# Altium footprint library FT232RL-REEL.PcbLib: 1 footprints
Each footprint in its own frame and in the unit in brackets; x right, y up, seen from the top. Pads: shape width x height; smd on the part's side, far side on the other; paste and mask are expansions set on the pad; w line width, h text height; cw(c..) or ccw(c..) is an arc to the next point about the centre after c.
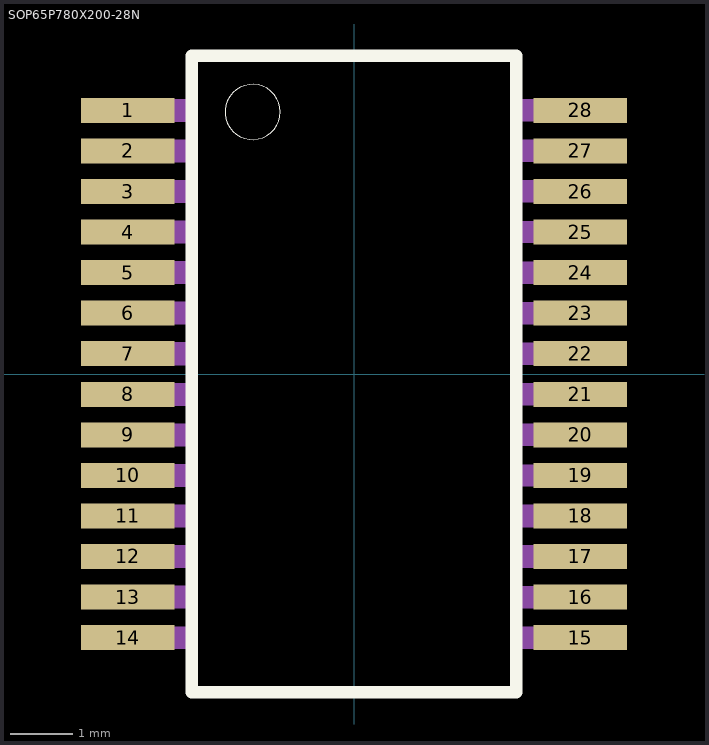
[diagram p0: the footprint, top view; thin cyan lines are the x and y axes]

## SOP65P780X200-28N [mm]
pads (28):
  rect 1.5x0.4 smd: 1(-3.625,4.225) 2(-3.625,3.575) 3(-3.625,2.925) 4(-3.625,2.275) 5(-3.625,1.625) 6(-3.625,0.975) 7(-3.625,0.325) 8(-3.625,-0.325) 9(-3.625,-0.975) 10(-3.625,-1.625) 11(-3.625,-2.275) 12(-3.625,-2.925) 13(-3.625,-3.575) 14(-3.625,-4.225) 15(3.625,-4.225) 16(3.625,-3.575) 17(3.625,-2.925) 18(3.625,-2.275) 19(3.625,-1.625) 20(3.625,-0.975) 21(3.625,-0.325) 22(3.625,0.325) 23(3.625,0.975) 24(3.625,1.625) 25(3.625,2.275) 26(3.625,2.925) 27(3.625,3.575) 28(3.625,4.225)
Top Overlay:
  circle w0: c-1.625,4.2 r0.442
  lines w0.203: -2.6,-5.1 2.6,-5.1 2.6,5.1 -2.6,5.1 -2.6,-5.1
Mechanical 1:
  region: 3.937,4.403 3.937,4.048 2.643,4.048 2.643,4.403
  region: 3.937,3.753 3.937,3.401 2.646,3.401 2.646,3.753
  region: 3.938,3.102 3.938,2.751 2.645,2.751 2.645,3.102
  region: 3.938,2.452 3.938,2.101 2.645,2.101 2.645,2.452
  region: 3.937,1.803 3.937,1.448 2.642,1.448 2.642,1.803
  region: 3.939,1.151 3.939,0.8 2.644,0.8 2.644,1.151
  region: 3.937,0.503 3.937,0.147 2.642,0.147 2.642,0.503
  region: 3.937,-0.148 3.937,-0.503 2.642,-0.503 2.642,-0.148
  region: 3.94,-0.801 3.94,-1.152 2.643,-1.152 2.643,-0.801
  region: 3.942,-1.452 3.942,-1.802 2.642,-1.802 2.642,-1.452
  region: 3.939,-2.1 3.939,-2.453 2.642,-2.453 2.642,-2.1
  region: 3.937,-2.747 3.937,-3.103 2.642,-3.103 2.642,-2.747
  region: 3.942,-3.402 3.942,-3.754 2.641,-3.754 2.641,-3.402
  region: 3.938,-4.048 3.938,-4.403 2.641,-4.403 2.641,-4.048
  region: -2.641,-4.048 -2.641,-4.405 -3.939,-4.405 -3.939,-4.048
  region: -2.641,-3.398 -2.641,-3.755 -3.939,-3.755 -3.939,-3.398
  region: -2.642,-2.747 -2.642,-3.107 -3.942,-3.107 -3.942,-2.747
  region: -2.642,-2.097 -2.642,-2.457 -3.941,-2.457 -3.941,-2.097
  region: -2.642,-1.446 -2.642,-1.807 -3.941,-1.807 -3.941,-1.446
  region: -2.643,-0.796 -2.643,-1.157 -3.941,-1.157 -3.941,-0.796
  region: -2.643,-0.146 -2.643,-0.506 -3.94,-0.506 -3.94,-0.146
  region: -2.644,0.506 -2.644,0.144 -3.94,0.144 -3.94,0.506
  region: -2.645,1.156 -2.645,0.794 -3.94,0.794 -3.94,1.156
  region: -2.642,1.803 -2.642,1.447 -3.937,1.447 -3.937,1.803
  region: -2.642,2.454 -2.642,2.097 -3.937,2.097 -3.937,2.454
  region: -2.642,3.104 -2.642,2.747 -3.937,2.747 -3.937,3.104
  region: -2.644,3.755 -2.644,3.397 -3.937,3.397 -3.937,3.755
  region: -2.642,4.403 -2.642,4.047 -3.937,4.047 -3.937,4.403